# EAGLE library part 6861XX183822_686106183822 (library 68611414422)
WR-FPC 1.00 mm SMT ZIF Vertical Type A KIND PROPERTIES Pitch 1 mm MATERIAL PROPERTIES Insulator Material PA6T Contact Material Phosphor Bronze Contact Plating 120 (µ") Tin over 30 (µ") Nickel Solder Tabs Brass <https://www.we-online.com/catalog/media/o83988v209%20Family_WR-FPC_6861xx183822.jpg> Details see: https://www.we-online.com/catalog/en/FPC_1_00_SMT_ZIF_VERTICAL_TYPE_A_6861XX183822/ Updated by Ella Wu, 2020-08-25 2020 (C) Würth Elektronik
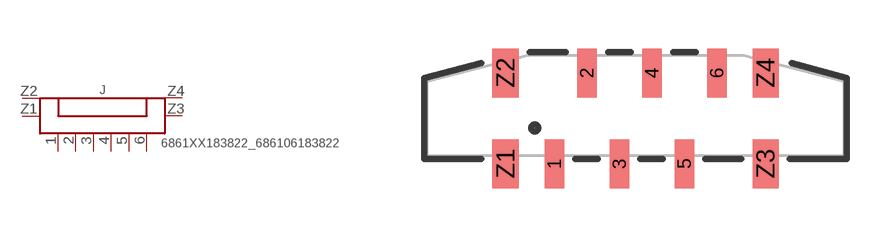
[diagram p204: symbol with the pads of 686106183822; footprint 686106183822]

Designator prefix J

## 6861XX183822_686106183822 (CONTACT-RESISTANCE: 30mOhm; DATASHEET-URL: https://www.we-online.com/catalog/datasheet/686106183822.pdf; IR: 1A; L: 12.8mm; MATE-WITH: WR-FFC 1.00 mm Flat Flexible Cable Type 1 (Contacts on same side)/ Type 2 (Contacts opposite); PACKAGING: Tape and Reel; PART-NUMBER: 686106183822; PINS: 6; PITCH: 1mm; TYPE: Vertical; VALUE: 686106183822; WORKING-VOLTAGE: 125V(AC))  [686106183822]
1  1  pas
2  2  pas
3  3  pas
4  4  pas
5  5  pas
6  6  pas
Z1  Z1  pas
Z2  Z2  pas
Z3  Z3  pas
Z4  Z4  pas

## Footprint 686106183822 (pad centres in mm)
WR-FPC 1.00 mm SMT ZIF Vertical Type A,6 Pins
smd 0.6 x 1.5: 1 -2.5,-1.8; 2 -1.5,1; 3 -0.5,-1.8; 4 0.5,1; 5 1.5,-1.8; 6 2.5,1
smd 0.8 x 1.5: Z1 -4,-1.8; Z2 -4,1; Z3 4,-1.8; Z4 4,1